# EAGLE library part TS-7500 (library crap)
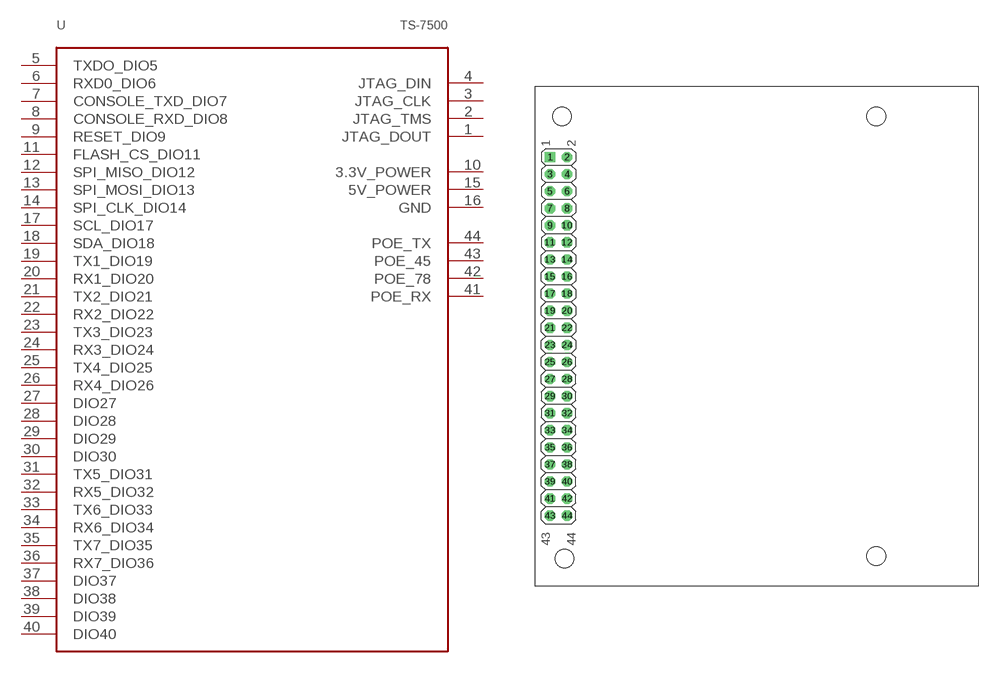
[diagram p0: symbol with the pads of TS-7500; footprint TS-7500]

Designator prefix -

## TS-7500  [TS-7500]
1  JTAG_DOUT
2  JTAG_TMS
3  JTAG_CLK
4  JTAG_DIN
5  TXDO_DIO5
6  RXD0_DIO6
7  CONSOLE_TXD_DIO7
8  CONSOLE_RXD_DIO8
9  RESET_DIO9
10  3.3V_POWER
11  FLASH_CS_DIO11
12  SPI_MISO_DIO12
13  SPI_MOSI_DIO13
14  SPI_CLK_DIO14
15  5V_POWER
16  GND
17  SCL_DIO17
18  SDA_DIO18
19  TX1_DIO19
20  RX1_DIO20
21  TX2_DIO21
22  RX2_DIO22
23  TX3_DIO23
24  RX3_DIO24
25  TX4_DIO25
26  RX4_DIO26
27  DIO27
28  DIO28
29  DIO29
30  DIO30
31  TX5_DIO31
32  RX5_DIO32
33  TX6_DIO33
34  RX6_DIO34
35  TX7_DIO35
36  RX7_DIO36
37  DIO37
38  DIO38
39  DIO39
40  DIO40
41  POE_RX
42  POE_78
43  POE_45
44  POE_TX

## Footprint TS-7500 (pad centres in mm)
PIN HEADER
drill 1.016 square: 1 2.54,63.5
drill 1.016 octagon: 2 5.08,63.5; 3 2.54,60.96; 4 5.08,60.96; 5 2.54,58.42; 6 5.08,58.42; 7 2.54,55.88; 8 5.08,55.88; 9 2.54,53.34; 10 5.08,53.34; 11 2.54,50.8; 12 5.08,50.8; 13 2.54,48.26; 14 5.08,48.26; 15 2.54,45.72; 16 5.08,45.72; 17 2.54,43.18; 18 5.08,43.18; 19 2.54,40.64; 20 5.08,40.64; 21 2.54,38.1; 22 5.08,38.1; 23 2.54,35.56; 24 5.08,35.56; 25 2.54,33.02; 26 5.08,33.02; 27 2.54,30.48; 28 5.08,30.48; 29 2.54,27.94; 30 5.08,27.94; 31 2.54,25.4; 32 5.08,25.4; 33 2.54,22.86; 34 5.08,22.86; 35 2.54,20.32; 36 5.08,20.32; 37 2.54,17.78; 38 5.08,17.78; 39 2.54,15.24; 40 5.08,15.24; 41 2.54,12.7; 42 5.08,12.7; 43 2.54,10.16; 44 5.08,10.16
hole 2.8 at 4.699,3.759
hole 2.8 at 51.054,4.14
hole 2.8 at 4.318,69.545
hole 2.8 at 51.054,69.545